# Altium footprint library RCDQLY.PCBLIB: 122 footprints (part 1 of 8)
Each footprint in its own frame and in the unit in brackets; x right, y up, seen from the top. Pads: shape width x height; smd on the part's side, far side on the other; paste and mask are expansions set on the pad; w line width, h text height; cw(c..) or ccw(c..) is an arc to the next point about the centre after c.
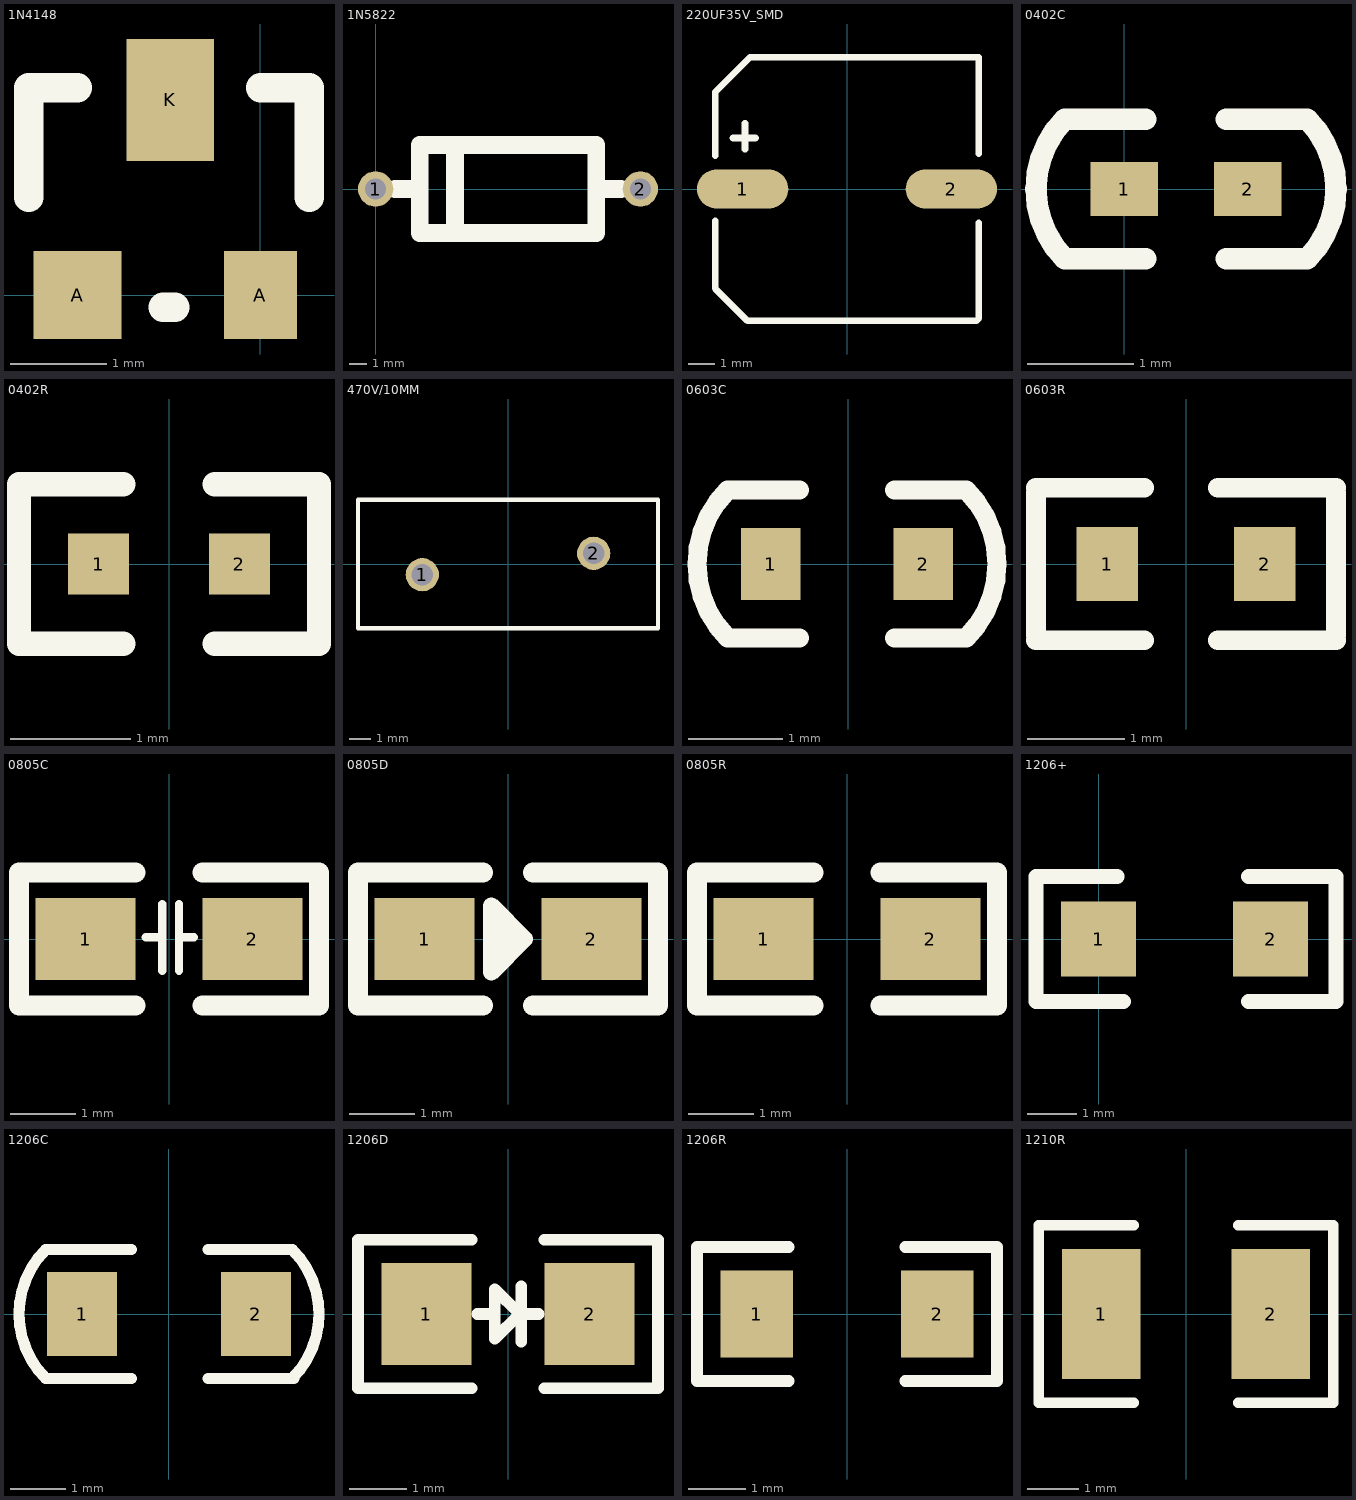
[diagram p0: the footprints below, top view; thin cyan lines are the x and y axes]

## 1N4148 [mil]
pads (3):
  rect 36x36 smd: A(-75,0)
  rect 30x36 smd: A(0,0)
  rect 36x50 smd: K(-37,80)
TopOverlay:
  lines w12: -95,40 -95,85 -75,85 ; -40,-5 -35,-5 ; 0,85 20,85 20,40

## 1N5822 [mm]
pads (2):
  round 2 hole 1.2: 1(0,0) 2(15,0)
TopOverlay:
  lines w1.016: 1.1,0 2.5,0 ; 4.5,-2.5 4.5,2.5 ; 12.5,0 13.9,0 ; 2.5,-2.5 2.5,2.5 12.5,2.5 12.5,-2.5 2.5,-2.5

## 220UF35V_SMD [mm]
pads (2):
  oval 3.5x1.5 smd: 1(-4,0) 2(4,0)
TopOverlay:
  lines w0.254: -5.055,-1.219 -5.055,-3.81 -3.81,-5.055 4.953,-5.055 5.055,-4.953 5.055,-1.295 ; -5.055,1.27 -5.055,3.708 -3.708,5.055 5.055,5.055 5.055,1.346 ; -4.369,1.956 -3.505,1.956 ; -3.912,1.524 -3.912,2.515

## 0402C [mil]
pads (2):
  rect 25x20 smd: 1(0,0) 2(46,0)
TopOverlay:
  lines w8: 8,-26 -22,-26 cw(c4,0) -22,26 8,26 ; 38,-26 68,-26 ccw(c42,0) 68,26 38,26

## 0402R [mil]
pads (2):
  rect 20x20 smd: 1(-23,0) 2(23,0)
TopOverlay:
  lines w8: -15,-26 -49,-26 -49,26 -15,26 ; 15,-26 49,-26 49,26 15,26

## 470V/10MM [mm]
pads (2):
  round 1.55 hole 1: 1(-4,-0.5) 2(4,0.5)
TopOverlay:
  lines w0.203: -7,-3 -7,3 7,3 7,-3 -7,-3

## 0603C [mil]
pads (2):
  rect 25x30 smd: 1(-32.53,0) 2(31.47,0)
TopOverlay:
  lines w8: -20.53,-31 -50.53,-31 cw(c-19.53,0) -50.53,31 -20.53,31 ; 19.47,-31 49.47,-31 ccw(c18.47,0) 49.47,31 19.47,31

## 0603R [mil]
pads (2):
  rect 25x30 smd: 1(-32,0) 2(32,0)
TopOverlay:
  lines w8: -61,-31 -17,-31 ; -61,-29 -61,29 ; -61,31 -17,31 ; 13,-31 61,-31 ; 13,31 61,31 ; 61,-29 61,29

## 0805C [mm]
height 0.254
pads (2):
  rect 1.524x1.25 smd: 1(-1.27,0) 2(1.27,0)
TopOverlay:
  lines w0.127: -0.356,0.025 -0.152,0.025 ; -0.102,-0.483 -0.102,0.533 ; 0.152,-0.483 0.152,0.533 ; 0.152,0.025 0.381,0.025
  lines w0.305: -0.508,-1.016 -2.286,-1.016 -2.286,1.016 -0.508,1.016 ; 0.508,-1.016 2.286,-1.016 2.286,1.016 0.508,1.016

## 0805D [mm]
height 0.254
pads (2):
  rect 1.524x1.25 smd: 1(-1.27,0) 2(1.27,0)
TopOverlay:
  lines w0.254: -0.254,-0.254 -0.127,-0.254 0,-0.127 0,0 -0.1,0.1 -0.254,0.254 -0.254,0.508 ; -0.254,0.508 -0.254,-0.508 0.254,0 -0.254,0.508
  lines w0.305: -0.381,-1.016 -2.286,-1.016 -2.286,1.016 -0.381,1.016 ; 0.381,-1.016 2.286,-1.016 2.286,1.016 0.381,1.016

## 0805R [mm]
height 0.254
pads (2):
  rect 1.524x1.25 smd: 1(-1.27,0) 2(1.27,0)
TopOverlay:
  lines w0.305: -0.508,-1.016 -2.286,-1.016 -2.286,1.016 -0.508,1.016 ; 0.508,-1.016 2.286,-1.016 2.286,1.016 0.508,1.016

## 1206+ [mil]
pads (2):
  rect 60x60 smd: 1(0,0) 2(137.8,0)
TopOverlay:
  lines w11.81: 15,50 -50,50 -50,-50 20,-50 ; 120,-50 190,-50 190,50 120,50

## 1206C [mil]
pads (2):
  rect 50x60 smd: 1(-62,0) 2(62,0)
TopOverlay:
  lines w8: -27,-46 -88,-46 cw(c-42,0) -88,46 -27,46 ; 28,-46 89,-46 ; 28,46 88,46 cw(c42,0) 88,-46

## 1206D [mil]
pads (2):
  rect 62x70 smd: 1(-56,0) 2(56,0)
TopOverlay:
  lines w8: -25,-51 -103,-51 -103,51 -25,51 ; -21,0 -9,0 ; 9,-19 9,19 ; 9,0 21,0 ; 25,-51 103,-51 103,51 25,51 ; -9,-17 8,0 -9,17 -9,-17

## 1206R [mil]
pads (2):
  rect 50x60 smd: 1(-62,0) 2(62,0)
TopOverlay:
  lines w8: -40,-46 -103,-46 -103,46 -40,46 ; 40,-46 103,-46 103,46 40,46

## 1210R [mil]
pads (2):
  rect 60x100 smd: 1(-65,0) 2(65,0)
TopOverlay:
  lines w8: -40,-68 -113,-68 -113,68 -40,68 ; 40,-68 113,-68 113,68 40,68